# Altium footprint library DRP_Basic_2014.PcbLib: 82 footprints (part 4 of 6)
Each footprint in its own frame and in the unit in brackets; x right, y up, seen from the top. Pads: shape width x height; smd on the part's side, far side on the other; paste and mask are expansions set on the pad; w line width, h text height; cw(c..) or ccw(c..) is an arc to the next point about the centre after c.
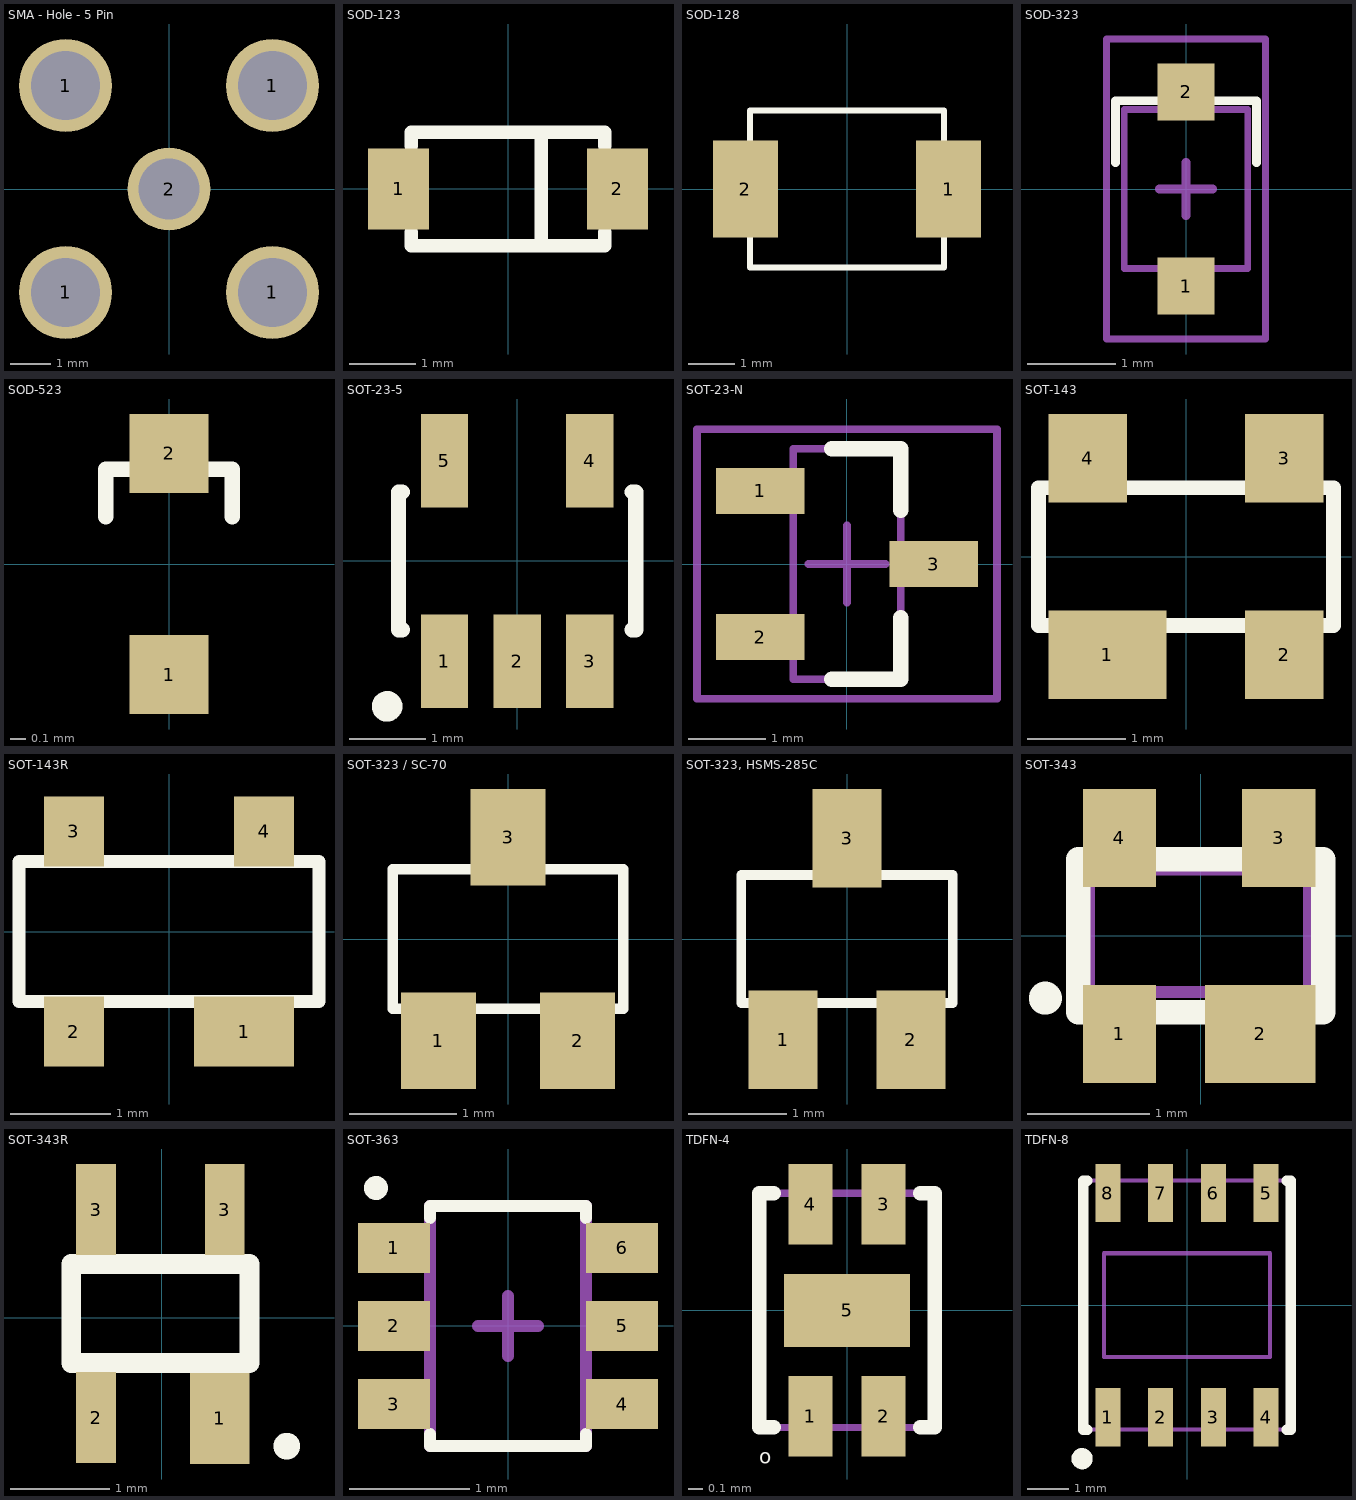
[diagram p3: the footprints below, top view; thin cyan lines are the x and y axes]

## SMA - Hole - 5 Pin [mil] "SMA Through Hole Connector"
pads (5):
  round 90 hole 67: 1(-100,-100) 1(-100,100) 1(100,-100) 1(100,100)
  round 80 hole 59.06: 2(0,0)

## SOD-123 [mil] "SOD-123; 2 Leads; Body 2.7 x 1.6 mm, (LxW)"
height 53.15
pads (2):
  rect 36x48 smd: 1(-64.5,0) 2(64.5,0)
Top Overlay:
  lines w7.87: -57.09,-25.59 -57.09,-33.46 57.09,-33.46 57.09,-25.59 ; -57.09,25.59 -57.09,33.46 57.09,33.46 57.09,25.59 ; 19.68,-33.46 19.68,33.46
3D body: height 90.55, standoff 0, extent -57.09,-33.46 57.09,33.46

## SOD-128 [mm] "Diode: Body 1.6 x 0.8 mm (LxW typ)"
height 0.87
pads (2):
  rect 1.4x2.1 smd: 1(2.2,0) 2(-2.2,0)
Top Overlay:
  lines w0.127: -2.1,-1.7 -2.1,1.7 2.1,1.7 2.1,-1.7 -2.1,-1.7
3D body "SOD-128.STEP": height 1.11, standoff 0, extent -2.6,-1.35 2.6,1.35

## SOD-323 [mm] "SOD-322 Footprint"
height 1
pads (2):
  rect 0.65x0.65 smd: 1(0,-1.1) 2(0,1.1)
Top Overlay:
  lines w0.1: -0.8,0.3 -0.8,1 0.8,1 0.8,0.3
Mechanical 13:
  lines w0.076: -0.7,-0.9 -0.7,0.9 0.7,0.9 0.7,-0.9 -0.7,-0.9
  text ".Designator" at -0.254,0.762 h0.51
Mechanical 15:
  lines w0.076: -0.9,-1.7 -0.9,1.7 0.9,1.7 0.9,-1.7 -0.9,-1.7
  lines w0.1: -0.3,0 0.3,0 ; 0,-0.3 0,0.3
3D body: height 1, standoff 0, extent -0.7,-0.9 0.7,0.9

## SOD-523 [mm] "SOD-523 Footprint"
height 1
pads (2):
  rect 0.5x0.5 smd: 1(0,-0.7) 2(0,0.7)
Top Overlay:
  lines w0.1: -0.401,0.3 -0.401,0.6 0.399,0.6 0.399,0.3
3D body: height 1, standoff 0, extent -0.4,-0.6 0.4,0.6

## SOT-23-5 [mm] "SOT23-5"
height 1.27
pads (5):
  rect 0.62x1.22 smd: 1(-0.95,-1.31) 2(0,-1.31) 3(0.95,-1.31) 4(0.95,1.31) 5(-0.95,1.31)
Top Overlay:
  circle w0.2: c-1.7,-1.9 r0.1
  lines w0.2: -1.5,-0.9 -1.55,-0.9 -1.55,0.9 -1.5,0.9 ; 1.5,-0.9 1.55,-0.9 1.55,0.9 1.5,0.9
3D body: height 1, standoff 0, extent -1.55,-0.9 1.55,0.9

## SOT-23-N [mm] "SOT23, 3-Leads, Body 2.9x1.3mm, Pitch 0.95mm, Lead Span 2.3mm - Reverse Pinning, IPC Medium Density"
height 1.1
pads (3):
  rect 1.15x0.6 smd: 1(-1.125,0.95) 2(-1.125,-0.95) 3(1.125,0)
Top Overlay:
  lines w0.2: -0.2,-1.5 0.7,-1.5 0.7,-0.7 ; -0.2,1.5 0.7,1.5 0.7,0.7
Mechanical 13:
  lines w0.1: -0.7,-1.5 0.7,-1.5 0.7,1.5 -0.7,1.5 -0.7,-1.5
Mechanical 15:
  lines w0.1: -0.5,0 0.5,0 ; 0,-0.5 0,0.5 ; -1.95,-1.75 1.95,-1.75 1.95,1.75 -1.95,1.75 -1.95,-1.75
3D body: height 1.1, standoff 0, extent -0.7,-1.5 0.7,1.5

## SOT-143 [mm] "SOT-143"
height 1
pads (4):
  rect 1.2x0.9 smd: 1(-0.8,-1)
  rect 0.8x0.9 smd: 2(1,-1) 3(1,1) 4(-1,1)
Top Overlay:
  lines w0.15: -1.5,-0.7 -1.5,0.7 1.5,0.7 1.5,-0.7 -1.5,-0.7
Mechanical 13:
  circle w0.254: c0.75,-1 r0.025
  lines w0.1: -1.5,-0.7 1.5,-0.7 1.5,0.7 -1.5,0.7 -1.5,-0.7
3D body: height 1.1, standoff 0, extent -1.5,-0.7 1.5,0.7

## SOT-143R [mm] "SOT-143R for BF1105R"
height 1.1
pads (4):
  rect 1x0.7 smd: 1(0.75,-1)
  rect 0.6x0.7 smd: 2(-0.95,-1) 3(-0.95,1) 4(0.95,1)
Top Overlay:
  lines w0.127: -1.5,-0.7 -1.5,0.7 1.5,0.7 1.5,-0.7 -1.5,-0.7
Mechanical 13:
  circle w0.254: c0.75,-1 r0.025
  lines w0.1: -1.5,-0.7 1.5,-0.7 1.5,0.7 -1.5,0.7 -1.5,-0.7
  text ".Designator" at -1.3,-0.2 h0.51
3D body: height 1.1, standoff 0, extent -1.5,-0.7 1.5,0.7

## SOT-323 / SC-70 [mm] "SOT-323 / SC-70; 3 Lead Package"
height 1
pads (3):
  rect 0.7x0.9 smd: 1(-0.65,-0.95) 2(0.65,-0.95) 3(0,0.95)
Top Overlay:
  lines w0.1: -1.075,-0.65 -1.075,0.65 1.075,0.65 1.075,-0.65 -1.075,-0.65
Mechanical 13:
  circle w0.1: c-0.65,-0.95 r0.042
  text ".Designator" at -0.85,-0.25 h0.51
3D body: height 1, standoff 0, extent -1.075,-0.65 1.075,0.65

## SOT-323, HSMS-285C [mm] "SOT-323/SC-70; 3 Leads; HSMS-285C"
height 1
pads (3):
  rect 0.7x1 smd: 1(-0.65,-1.025) 2(0.65,-1.025) 3(0,1.025)
Top Overlay:
  lines w0.1: -1.075,-0.65 -1.075,0.65 1.075,0.65 1.075,-0.65 -1.075,-0.65
3D body: height 1, standoff 0, extent -1.075,-0.65 1.075,0.65

## SOT-343 [mm] "SOT343"
height 1
pads (4):
  rect 0.6x0.8 smd: 1(-0.664,-0.8) 3(0.636,0.8) 4(-0.664,0.8)
  rect 0.9x0.8 smd: 2(0.486,-0.8)
Top Overlay:
  circle w0.254: c-1.27,-0.508 r0.008
  lines w0.2: -1,-0.625 -1,0.625 1,0.625 1,-0.625 -1,-0.625
Mechanical 13:
  circle w0.1: c0.584,-1.016 r0.051
  lines w0.1: -0.914,-0.457 -0.914,0.543 0.886,0.543 0.886,-0.457 -0.914,-0.457
3D body: height 1.1, standoff 0, extent -1,-0.625 1,0.625

## SOT-343R [mm] "SOT343R - Package for BF1101WR"
height 1.1
pads (4):
  rect 0.6x0.92 smd: 1(0.584,-1.016)
  rect 0.4x0.92 smd: 2(-0.664,-1.007) 3(-0.664,1.093) 3(0.636,1.093)
Top Overlay:
  circle w0.254: c1.262,-1.295 r0.008
  lines w0.2: -0.914,-0.457 -0.914,0.543 0.886,0.543 0.886,-0.457 -0.914,-0.457
Mechanical 13:
  circle w0.1: c0.584,-1.016 r0.051
  lines w0.1: -0.914,-0.457 -0.914,0.543 0.886,0.543 0.886,-0.457 -0.914,-0.457
  text ".Designator" at 0.7,0.3 h0.51
3D body: height 1.1, standoff 0, extent -0.914,-0.457 0.886,0.543

## SOT-363 [mm] "SOT-363 ,SC-88 ,6 Lead"
height 1
pads (6):
  rect 0.6x0.42 smd: 1(-0.95,0.65) 2(-0.95,0) 3(-0.95,-0.65) 4(0.95,-0.65) 5(0.95,0) 6(0.95,0.65)
Top Overlay:
  circle w0.1: c-1.1,1.15 r0.05
  lines w0.1: -0.65,-0.9 -0.65,-1 0.65,-1 0.65,-0.9 ; -0.65,0.9 -0.65,1 0.65,1 0.65,0.9
Mechanical 13:
  circle w0.1: c-0.95,0.65 r0.05
  lines w0.1: -0.65,-1 0.65,-1 0.65,1 -0.65,1 -0.65,-1
  text ".Designator" at -0.25,0.8 h0.51
Mechanical 15:
  lines w0.1: -0.25,0 0.25,0 ; 0,-0.25 0,0.25
3D body: height 1, standoff 0, extent -0.65,-1 0.65,1

## TDFN-4 [mm] "TDFN4 1.2 x 1.6"
height 0.55
pads (5):
  rect 0.3x0.55 smd: 1(-0.25,-0.725) 2(0.25,-0.725) 3(0.25,0.725) 4(-0.25,0.725)
  rect 0.86x0.5 smd: 5(0,0)
Top Overlay:
  lines w0.1: -0.5,-0.8 -0.6,-0.8 -0.6,0.8 -0.5,0.8 ; 0.5,-0.8 0.6,-0.8 0.6,0.8 0.5,0.8
  text "o" at -0.6,-1.05 h0.1
Mechanical 13:
  circle w0.1: c-0.25,-0.725 r0.025
  lines w0.05: -0.6,-0.8 0.6,-0.8 0.6,0.8 -0.6,0.8 -0.6,-0.8
  text ".Designator" at 0.102,-0.66 h0.25
3D body: height 0.55, standoff 0, extent -0.6,-0.8 0.6,0.8

## TDFN-8 [mm] "FM25V20 - 2Mb SPI F-RAM"
height 0.5
pads (8):
  rect 0.6x1.4 smd: 1(-1.905,-2.7) 2(-0.635,-2.7) 3(0.635,-2.7) 4(1.905,-2.7) 5(1.905,2.7) 6(0.635,2.7) 7(-0.635,2.7) 8(-1.905,2.7)
Top Overlay:
  circle w0.254: c-2.527,-3.7 r0.127
  lines w0.254: -2.4,-3 -2.5,-3 -2.5,3 -2.4,3 ; 2.4,-3 2.5,-3 2.5,3 2.4,3
Mechanical 3:
  lines w0.1: -2,-1.25 -2,1.25 2,1.25 2,-1.25 -2,-1.25
  text "Exposed floating pad:" at -1.8,0.8 h0.13
  text "minimize traces" at -1.8,0.5 h0.13
  text "routing in this area." at -1.8,0.2 h0.13
Mechanical 13:
  circle w0.1: c-1.905,-2.7 r0.085
  lines w0.1: -2.5,-3 2.5,-3 2.5,3 -2.5,3 -2.5,-3
  text ".Designator" at -1.397,-1.651 h0.76
3D body: height 0.75, standoff 0, extent -2.5,-3 2.5,3